# Altium schematic symbol library ADAFRUIT_MAX31855_BRKOUT.SchLib: 1 symbol
Pins are listed as number, name and electrical type; pins without a type are passive.

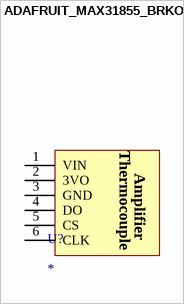
[diagram p0: symbol ADAFRUIT_MAX31855_BRKOUT]

## ADAFRUIT_MAX31855_BRKOUT
designator U?
pins: 1 VIN, 2 3VO, 3 GND, 4 DO, 5 CS, 6 CLK
text: Thermocouple; Amplifier